# Altium schematic symbol library Relay.SchLib: 3 symbols
Pins are listed as number, name and electrical type; pins without a type are passive.

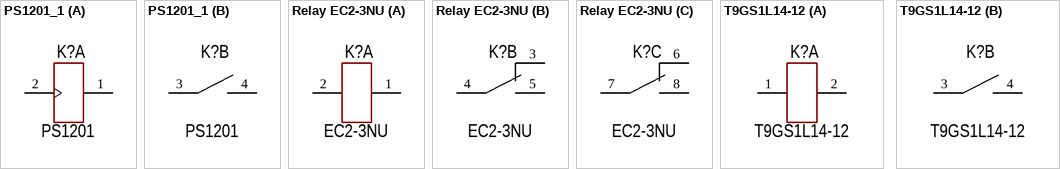
[diagram p0: symbols PS1201_1 to T9GS1L14-12]

## PS1201_1
designator K?, comment PS1201
Manufacturer: IXYS Integrated Circuits Division; Model: PS1201; HelpURL: https://www.digikey.com/product-detail/en/ixys-integrated-circuits-division/PS1201/CLA195-ND/565944; ComponentKind: 1NO
footprint REL: PS1201
part A pins: 1, 2 +
part B pins: 3, 4

## Relay EC2-3NU
designator K?, comment EC2-3NU
Manufacturer: KEMET; Model: EC2-3NU; HelpURL: https://www.digikey.com/product-detail/en/kemet/EC2-3NU/399-11042-5-ND/4291108; ComponentKind: 2NO+2NC
footprint REL: EC2-3NU
part A pins: 1, 2
part B pins: 3, 4, 5
part C pins: 6, 7, 8

## T9GS1L14-12
designator K?
Manufacturer: TE Connectivity; Model: T9GS1L14-12; HelpURL: https://ru.mouser.com/ProductDetail/TE-Connectivity-PB/T9GS1L14-12?qs=sGAEpiMZZMtSzCF3XBhmW8zqjnyn0fexfr02%2fRTEzis%3d; ComponentKind: 1NO
footprint REL: T9GS1
part A pins: 1, 2 +
part B pins: 3, 4